# EAGLE library part FSM-42074-20B (library tm-HIROSUGI)
HIROSGI 2.54mm pitch double pinsocket SMD FSM-42074-20B
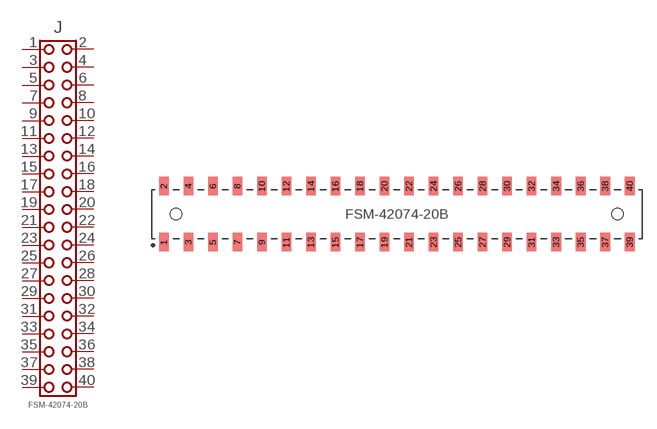
[diagram p2: symbol with the pads of FSM-42074-20B; footprint FSM-42074-20B]

Designator prefix J

## FSM-42074-20B  [FSM-42074-20B]
1  1
2  2
3  3
4  4
5  5
6  6
7  7
8  8
9  9
10  10
11  11
12  12
13  13
14  14
15  15
16  16
17  17
18  18
19  19
20  20
21  21
22  22
23  23
24  24
25  25
26  26
27  27
28  28
29  29
30  30
31  31
32  32
33  33
34  34
35  35
36  36
37  37
38  38
39  39
40  40

## Footprint FSM-42074-20B (pad centres in mm)
smd 1 x 1.9: 1 -24.13,-2.9; 2 -24.13,2.9; 3 -21.59,-2.9; 4 -21.59,2.9; 5 -19.05,-2.9; 6 -19.05,2.9; 7 -16.51,-2.9; 8 -16.51,2.9; 9 -13.97,-2.9; 10 -13.97,2.9; 11 -11.43,-2.9; 12 -11.43,2.9; 13 -8.89,-2.9; 14 -8.89,2.9; 15 -6.35,-2.9; 16 -6.35,2.9; 17 -3.81,-2.9; 18 -3.81,2.9; 19 -1.27,-2.9; 20 -1.27,2.9; 21 1.27,-2.9; 22 1.27,2.9; 23 3.81,-2.9; 24 3.81,2.9; 25 6.35,-2.9; 26 6.35,2.9; 27 8.89,-2.9; 28 8.89,2.9; 29 11.43,-2.9; 30 11.43,2.9; 31 13.97,-2.9; 32 13.97,2.9; 33 16.51,-2.9; 34 16.51,2.9; 35 19.05,-2.9; 36 19.05,2.9; 37 21.59,-2.9; 38 21.59,2.9; 39 24.13,-2.9; 40 24.13,2.9
hole 1.2 at -22.86,0
hole 1.2 at 22.86,0